# Altium schematic symbol library LT1615.Schlib: 1 symbol
Pins are listed as number, name and electrical type; pins without a type are passive.

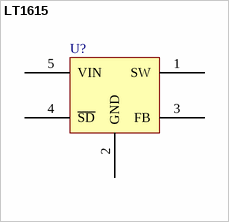
[diagram p0: symbol LT1615]

## LT1615
designator U?
pins: 1 SW, 2 GND, 3 FB, 4 ~{SD}, 5 VIN